# Altium footprint library NUCLEO-ST-Link.PcbLib: 2 footprints
Each footprint in its own frame and in the unit in brackets; x right, y up, seen from the top. Pads: shape width x height; smd on the part's side, far side on the other; paste and mask are expansions set on the pad; w line width, h text height; cw(c..) or ccw(c..) is an arc to the next point about the centre after c.
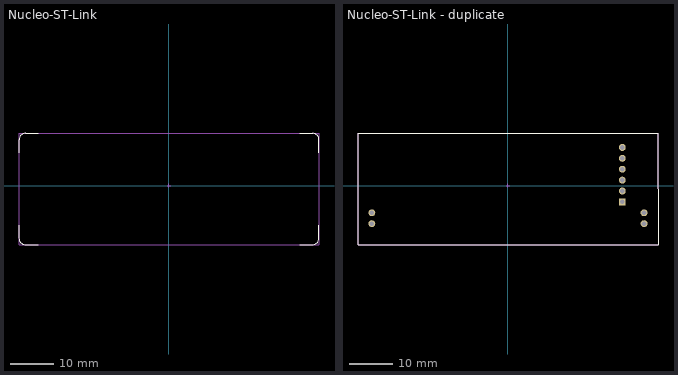
[diagram p0: the footprints below, top view; thin cyan lines are the x and y axes]

## Nucleo-ST-Link [mm]
Top Overlay:
  lines w0.153: -34.975,-9.275 -34.975,-12.275 ccw(c-33.475,-12.275) -33.475,-13.775 -30.475,-13.775 ; -34.95,7.69 -34.95,10.69 cw(c-33.45,10.69) -33.45,12.19 -30.45,12.19 ; 30.475,-13.8 33.475,-13.8 ccw(c33.475,-12.3) 34.975,-12.3 34.975,-9.3 ; 30.5,12.165 33.5,12.165 cw(c33.5,10.665) 35,10.665 35,7.665
Top Assembly:
  lines w0.1: -34.975,-13.8 35,-13.8 35,12.19 -34.975,12.19 -34.975,-13.8
  text "'.Designator'" at -4.532,-0.333 h0.8
Mechanical 15:
  lines w0.1: -0.45,0 0.45,0 ; 0,-0.45 0,0.45 ; -34.975,-13.8 -34.975,12.19 35,12.19 35,-13.8 -34.975,-13.8
3D body "NUCLEO-ST-Link v5.step": height 15.47, standoff 2.9, extent -34.98,-13.716 35.02,12.149

## Nucleo-ST-Link - duplicate [mm]
pads (10):
  rect 1.6x1.6 hole 1.1: 1(26.67,-3.81)
  round 1.6 hole 1.1: 2(26.67,-1.27) 3(26.67,1.27) 4(26.67,3.81) 5(26.67,6.35) 6(26.67,8.89) MH(-31.75,-8.89) MH(-31.75,-6.35) MH(31.75,-8.89) MH(31.75,-6.35)
Top Overlay:
  lines w0.153: -34.975,-13.8 35,-13.8 35,12.19 -34.975,12.19 -34.975,-13.8
Top Assembly:
  lines w0.1: -34.975,-13.8 -34.975,12.19 35,12.19 35,-13.8 -34.975,-13.8
  text "'.Designator'" at -4.532,-0.333 h0.8
Mechanical 15:
  lines w0.1: -0.45,0 0.45,0 ; 0,-0.45 0,0.45 ; -34.975,-13.8 35,-13.8 35,12.19 -34.975,12.19 -34.975,-13.8
3D body "NUCLEO-ST-Link v5.step": height 15.47, standoff 2.9, extent -34.98,-13.716 35.02,12.149